# Altium schematic symbol library Interface_Optical.SchLib: 42 symbols
Pins are listed as number, name and electrical type; pins without a type are passive.

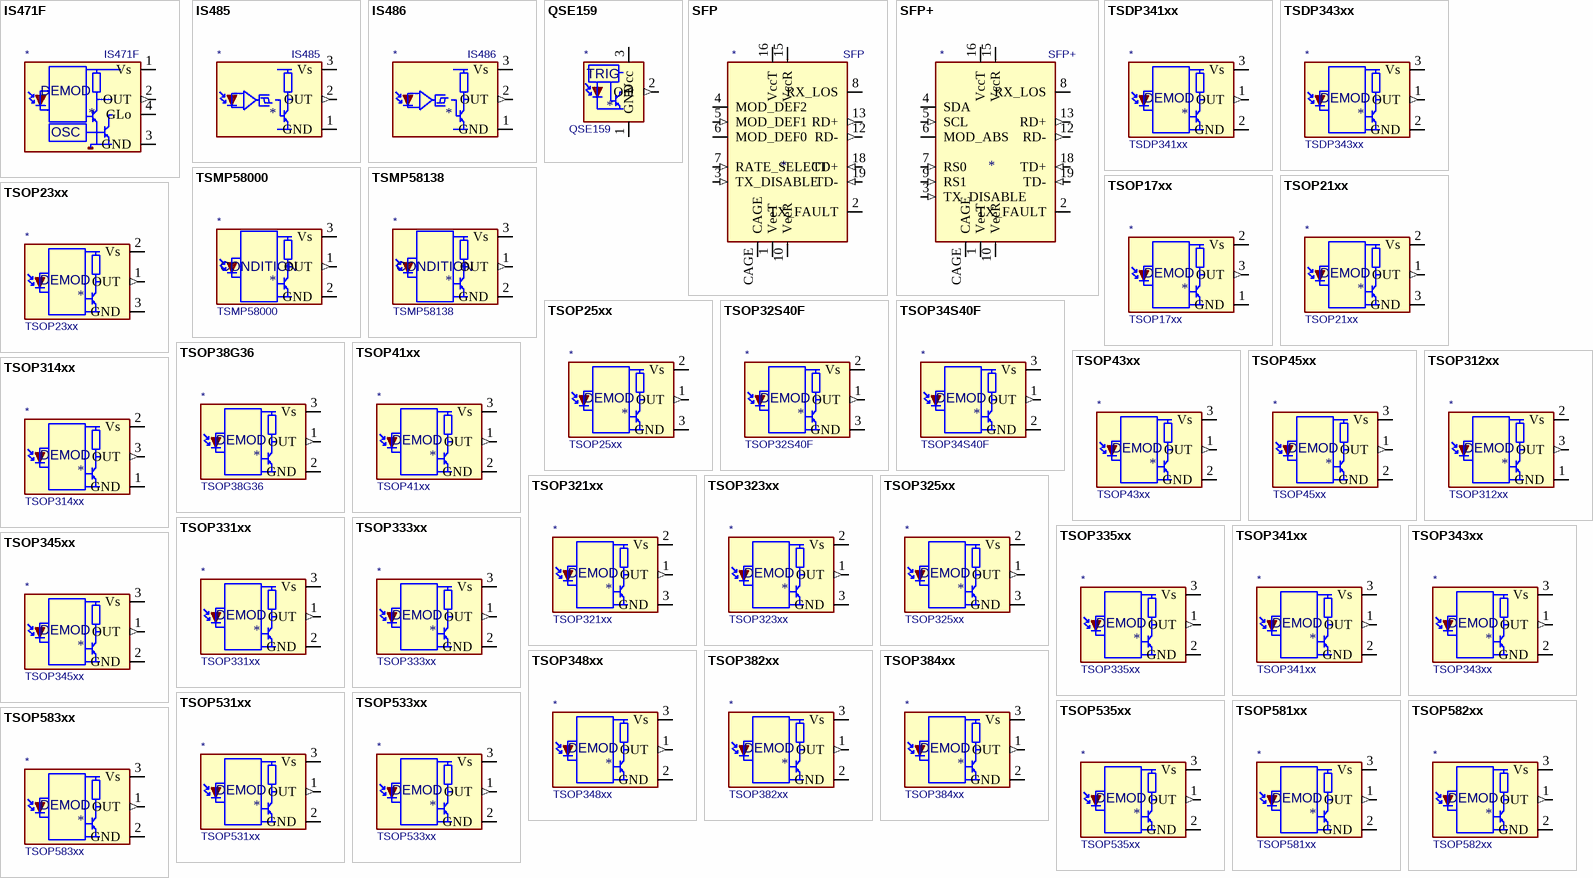
[diagram p0: symbols IS471F to TSOP583xx]

## IS471F
designator *  value IS471F
ki_keywords: opto IR receiver; ki_description: Photo Modules for PCM Remote Control Systems; ki_fp_filters: Sharp*IS471F*; Footprint: OptoDevice:Sharp_IS471F; Supplier: http://www.micropik.com/PDF/tsop17xx.pdf
footprint Sharp_IS471F
pins: 1 Vs (power), 2 OUT (out), 3 GND (power), 4 GLo (oc)
text: DEMOD; OSC

## IS485
designator *  value IS485
ki_keywords: opto receiver amplifier light detector OPIC; ki_description: Built-in Amplifier Type OPIC Light Detector; ki_fp_filters: Sharp*IS485*; Footprint: OptoDevice:Sharp_IS485; Supplier: https://media.digikey.com/pdf/Data%20Sheets/Sharp%20PDFs/is485,486_e.pdf
footprint Sharp_IS485
pins: 1 GND (power), 2 OUT (out), 3 Vs (power)

## IS486
designator *  value IS486
ki_keywords: opto receiver amplifier light detector OPIC; ki_description: Built-in Amplifier Type OPIC Light Detector; ki_fp_filters: Sharp*IS485*; Footprint: OptoDevice:Sharp_IS485; Supplier: https://media.digikey.com/pdf/Data%20Sheets/Sharp%20PDFs/is485,486_e.pdf
footprint Sharp_IS485
pins: 1 GND (power), 2 OUT (out), 3 Vs (power)

## QSE159
designator *  value QSE159
ki_keywords: opto IR; ki_description: Plastic Silicon Photosensor; ki_fp_filters: *QSE15*; Footprint: OptoDevice:ONSemi_QSE15x; Supplier: http://www.onsemi.com/pub/Collateral/QSE159-D.pdf
footprint ONSemi_QSE15x
pins: 1 GND (power), 2 Out (out), 3 Vcc (power)
text: TRIG

## SFP
designator *  value SFP
ki_keywords: SFP transceiver gigabit ethernet INF-8074i; ki_description: Connector for Small Form Factor Pluggable (SFP) module, 1 Gbit/s, serial-to-serial data-agnostic optical transceiver; ki_fp_filters: *SFP*; Supplier: http://www.10gtek.com/templates/wzten/pdf/INF-8074.pdf
pins: 1 VeeT (power), 2 TX_FAULT (oc), 3 TX_DISABLE (in), 4 MOD_DEF2 (io), 5 MOD_DEF1 (in), 6 MOD_DEF0, 7 RATE_SELECT (in), 8 RX_LOS (oc), 9 VeeR hidden, 10 VeeR (power), 11 VeeR hidden, 12 RD- (out), 13 RD+ (out), 14 VeeR hidden, 15 VccR (power), 16 VccT (power), 17 VeeT hidden, 18 TD+ (in), 19 TD- (in), 20 VeeT hidden, CAGE

## SFP+
designator *  value SFP+
ki_keywords: SFP transceiver gigabit ethernet SFF-8432; ki_description: Connector for Small Form Factor Pluggable (SFP+) module, 10 Gbit/s, serial-to-serial data-agnostic optical transceiver; ki_fp_filters: *SFP*; Supplier: https://members.snia.org/document/dl/25892
pins: 1 VeeT (power), 2 TX_FAULT (oc), 3 TX_DISABLE (in), 4 SDA (io), 5 SCL (in), 6 MOD_ABS, 7 RS0 (in), 8 RX_LOS (oc), 9 RS1 (in), 10 VeeR (power), 11 VeeR hidden, 12 RD- (out), 13 RD+ (out), 14 VeeR hidden, 15 VccR (power), 16 VccT (power), 17 VeeT hidden, 18 TD+ (in), 19 TD- (in), 20 VeeT hidden, CAGE

## TSDP341xx
designator *  value TSDP341xx
ki_keywords: opto IR receiver; ki_description: IR Receiver Modules for Data Transmission; ki_fp_filters: Vishay*MOLD*; Footprint: OptoDevice:Vishay_MOLD-3Pin; Supplier: http://www.vishay.com/docs/82667/tsdp341.pdf
footprint Vishay_MOLD-3Pin
pins: 1 OUT (out), 2 GND (power), 3 Vs (power)
text: DEMOD

## TSDP343xx
designator *  value TSDP343xx
ki_keywords: opto IR receiver; ki_description: IR Receiver Modules for Data Transmission; ki_fp_filters: Vishay*MOLD*; Footprint: OptoDevice:Vishay_MOLD-3Pin; Supplier: http://www.vishay.com/docs/82667/tsdp341.pdf
footprint Vishay_MOLD-3Pin
pins: 1 OUT (out), 2 GND (power), 3 Vs (power)
text: DEMOD

## TSMP58000
designator *  value TSMP58000
ki_keywords: opto IR receiver; ki_description: Photo Module (Amplify&Condition) for PCM Remote Control Systems; ki_fp_filters: Vishay*MINICAST*; Footprint: OptoDevice:Vishay_MINICAST-3Pin; Supplier: http://www.vishay.com/docs/82485/tsmp58000.pdf
footprint Vishay_MINICAST-3Pin
pins: 1 OUT (out), 2 GND (power), 3 Vs (power)
text: CONDITION

## TSMP58138
designator *  value TSMP58138
ki_keywords: opto IR repeater receiver; ki_description: Photo Module (Repeater) for PCM Remote Control Systems; ki_fp_filters: Vishay*MINICAST*; Footprint: OptoDevice:Vishay_MINICAST-3Pin; Supplier: http://www.vishay.com/docs/82486/tsmp58138.pdf
footprint Vishay_MINICAST-3Pin
pins: 1 OUT (out), 2 GND (power), 3 Vs (power)
text: CONDITION

## TSOP17xx
designator *  value TSOP17xx
ki_keywords: opto IR receiver; ki_description: Photo Modules for PCM Remote Control Systems; ki_fp_filters: Vishay*CAST*; Footprint: OptoDevice:Vishay_CAST-3Pin; Supplier: http://www.micropik.com/PDF/tsop17xx.pdf
footprint Vishay_CAST-3Pin
pins: 1 GND (power), 2 Vs (power), 3 OUT (out)
text: DEMOD

## TSOP21xx
designator *  value TSOP21xx
ki_keywords: opto IR receiver; ki_description: IR Receiver Modules for Remote Control Systems; ki_fp_filters: Vishay*MOLD*; Footprint: OptoDevice:Vishay_MOLD-3Pin; Supplier: http://www.vishay.com/docs/82460/tsop45.pdf
footprint Vishay_MOLD-3Pin
pins: 1 OUT (out), 2 Vs (power), 3 GND (power)
text: DEMOD

## TSOP23xx
designator *  value TSOP23xx
ki_keywords: opto IR receiver; ki_description: IR Receiver Modules for Remote Control Systems; ki_fp_filters: Vishay*MOLD*; Footprint: OptoDevice:Vishay_MOLD-3Pin; Supplier: http://www.vishay.com/docs/82460/tsop45.pdf
footprint Vishay_MOLD-3Pin
pins: 1 OUT (out), 2 Vs (power), 3 GND (power)
text: DEMOD

## TSOP25xx
designator *  value TSOP25xx
ki_keywords: opto IR receiver; ki_description: IR Receiver Modules for Remote Control Systems; ki_fp_filters: Vishay*MOLD*; Footprint: OptoDevice:Vishay_MOLD-3Pin; Supplier: http://www.vishay.com/docs/82460/tsop45.pdf
footprint Vishay_MOLD-3Pin
pins: 1 OUT (out), 2 Vs (power), 3 GND (power)
text: DEMOD

## TSOP32S40F
designator *  value TSOP32S40F
ki_keywords: opto IR receiver; ki_description: IR Receiver Modules for Remote Control Systems; ki_fp_filters: Vishay*MOLD*; Footprint: OptoDevice:Vishay_MOLD-3Pin; Supplier: http://www.vishay.com/docs/82669/tsop32s40f.pdf
footprint Vishay_MOLD-3Pin
pins: 1 OUT (out), 2 Vs (power), 3 GND (power)
text: DEMOD

## TSOP34S40F
designator *  value TSOP34S40F
ki_keywords: opto IR receiver; ki_description: IR Receiver Modules for Remote Control Systems; ki_fp_filters: Vishay*MOLD*; Footprint: OptoDevice:Vishay_MOLD-3Pin; Supplier: http://www.vishay.com/docs/82669/tsop32s40f.pdf
footprint Vishay_MOLD-3Pin
pins: 1 OUT (out), 2 GND (power), 3 Vs (power)
text: DEMOD

## TSOP38G36
designator *  value TSOP38G36
ki_keywords: opto IR receiver; ki_description: Photo Modules for PCM Remote Control Systems; ki_fp_filters: Vishay*MINICAST*; Footprint: OptoDevice:Vishay_MINICAST-3Pin; Supplier: http://www.vishay.com/docs/82731/tsop38g36.pdf
footprint Vishay_MINICAST-3Pin
pins: 1 OUT (out), 2 GND (power), 3 Vs (power)
text: DEMOD

## TSOP41xx
designator *  value TSOP41xx
ki_keywords: opto IR receiver; ki_description: IR Receiver Modules for Remote Control Systems; ki_fp_filters: Vishay*MOLD*; Footprint: OptoDevice:Vishay_MOLD-3Pin; Supplier: http://www.vishay.com/docs/82460/tsop45.pdf
footprint Vishay_MOLD-3Pin
pins: 1 OUT (out), 2 GND (power), 3 Vs (power)
text: DEMOD

## TSOP43xx
designator *  value TSOP43xx
ki_keywords: opto IR receiver; ki_description: IR Receiver Modules for Remote Control Systems; ki_fp_filters: Vishay*MOLD*; Footprint: OptoDevice:Vishay_MOLD-3Pin; Supplier: http://www.vishay.com/docs/82460/tsop45.pdf
footprint Vishay_MOLD-3Pin
pins: 1 OUT (out), 2 GND (power), 3 Vs (power)
text: DEMOD

## TSOP45xx
designator *  value TSOP45xx
ki_keywords: opto IR receiver; ki_description: IR Receiver Modules for Remote Control Systems; ki_fp_filters: Vishay*MOLD*; Footprint: OptoDevice:Vishay_MOLD-3Pin; Supplier: http://www.vishay.com/docs/82460/tsop45.pdf
footprint Vishay_MOLD-3Pin
pins: 1 OUT (out), 2 GND (power), 3 Vs (power)
text: DEMOD

## TSOP312xx
designator *  value TSOP312xx
ki_keywords: opto IR receiver; ki_description: Photo Modules for PCM Remote Control Systems; ki_fp_filters: Vishay*CAST*; Footprint: OptoDevice:Vishay_CAST-3Pin; Supplier: http://www.vishay.com/docs/82492/tsop312.pdf
footprint Vishay_CAST-3Pin
pins: 1 GND (power), 2 Vs (power), 3 OUT (out)
text: DEMOD

## TSOP314xx
designator *  value TSOP314xx
ki_keywords: opto IR receiver; ki_description: Photo Modules for PCM Remote Control Systems; ki_fp_filters: Vishay*CAST*; Footprint: OptoDevice:Vishay_CAST-3Pin; Supplier: http://www.vishay.com/docs/82492/tsop312.pdf
footprint Vishay_CAST-3Pin
pins: 1 GND (power), 2 Vs (power), 3 OUT (out)
text: DEMOD

## TSOP321xx
designator *  value TSOP321xx
ki_keywords: opto IR receiver; ki_description: IR Receiver Modules for Remote Control Systems; ki_fp_filters: Vishay*MOLD*; Footprint: OptoDevice:Vishay_MOLD-3Pin; Supplier: http://www.vishay.com/docs/82490/tsop321.pdf
footprint Vishay_MOLD-3Pin
pins: 1 OUT (out), 2 Vs (power), 3 GND (power)
text: DEMOD

## TSOP323xx
designator *  value TSOP323xx
ki_keywords: opto IR receiver; ki_description: IR Receiver Modules for Remote Control Systems; ki_fp_filters: Vishay*MOLD*; Footprint: OptoDevice:Vishay_MOLD-3Pin; Supplier: http://www.vishay.com/docs/82490/tsop321.pdf
footprint Vishay_MOLD-3Pin
pins: 1 OUT (out), 2 Vs (power), 3 GND (power)
text: DEMOD

## TSOP325xx
designator *  value TSOP325xx
ki_keywords: opto IR receiver; ki_description: IR Receiver Modules for Remote Control Systems; ki_fp_filters: Vishay*MOLD*; Footprint: OptoDevice:Vishay_MOLD-3Pin; Supplier: http://www.vishay.com/docs/82490/tsop321.pdf
footprint Vishay_MOLD-3Pin
pins: 1 OUT (out), 2 Vs (power), 3 GND (power)
text: DEMOD

## TSOP331xx
designator *  value TSOP331xx
ki_keywords: opto IR receiver; ki_description: IR Receiver Modules for Remote Control Systems; ki_fp_filters: Vishay*MINIMOLD*; Footprint: OptoDevice:Vishay_MINIMOLD-3Pin; Supplier: http://www.vishay.com/docs/82742/tsop331.pdf
footprint Vishay_MINIMOLD-3Pin
pins: 1 OUT (out), 2 GND (power), 3 Vs (power)
text: DEMOD

## TSOP333xx
designator *  value TSOP333xx
ki_keywords: opto IR receiver; ki_description: IR Receiver Modules for Remote Control Systems; ki_fp_filters: Vishay*MINIMOLD*; Footprint: OptoDevice:Vishay_MINIMOLD-3Pin; Supplier: http://www.vishay.com/docs/82742/tsop331.pdf
footprint Vishay_MINIMOLD-3Pin
pins: 1 OUT (out), 2 GND (power), 3 Vs (power)
text: DEMOD

## TSOP335xx
designator *  value TSOP335xx
ki_keywords: opto IR receiver; ki_description: IR Receiver Modules for Remote Control Systems; ki_fp_filters: Vishay*MINIMOLD*; Footprint: OptoDevice:Vishay_MINIMOLD-3Pin; Supplier: http://www.vishay.com/docs/82742/tsop331.pdf
footprint Vishay_MINIMOLD-3Pin
pins: 1 OUT (out), 2 GND (power), 3 Vs (power)
text: DEMOD

## TSOP341xx
designator *  value TSOP341xx
ki_keywords: opto IR receiver; ki_description: IR Receiver Modules for Remote Control Systems; ki_fp_filters: Vishay*MOLD*; Footprint: OptoDevice:Vishay_MOLD-3Pin; Supplier: http://www.vishay.com/docs/82490/tsop321.pdf
footprint Vishay_MOLD-3Pin
pins: 1 OUT (out), 2 GND (power), 3 Vs (power)
text: DEMOD

## TSOP343xx
designator *  value TSOP343xx
ki_keywords: opto IR receiver; ki_description: IR Receiver Modules for Remote Control Systems; ki_fp_filters: Vishay*MOLD*; Footprint: OptoDevice:Vishay_MOLD-3Pin; Supplier: http://www.vishay.com/docs/82490/tsop321.pdf
footprint Vishay_MOLD-3Pin
pins: 1 OUT (out), 2 GND (power), 3 Vs (power)
text: DEMOD

## TSOP345xx
designator *  value TSOP345xx
ki_keywords: opto IR receiver; ki_description: IR Receiver Modules for Remote Control Systems; ki_fp_filters: Vishay*MOLD*; Footprint: OptoDevice:Vishay_MOLD-3Pin; Supplier: http://www.vishay.com/docs/82490/tsop321.pdf
footprint Vishay_MOLD-3Pin
pins: 1 OUT (out), 2 GND (power), 3 Vs (power)
text: DEMOD

## TSOP348xx
designator *  value TSOP348xx
ki_keywords: opto IR receiver; ki_description: IR Receiver Modules for Remote Control Systems; ki_fp_filters: Vishay*MOLD*; Footprint: OptoDevice:Vishay_MOLD-3Pin; Supplier: https://www.vishay.com/docs/82489/tsop322.pdf
footprint Vishay_MOLD-3Pin
pins: 1 OUT (out), 2 GND (power), 3 Vs (power)
text: DEMOD

## TSOP382xx
designator *  value TSOP382xx
ki_keywords: opto IR receiver; ki_description: Photo Modules for PCM Remote Control Systems; ki_fp_filters: Vishay*MINICAST*; Footprint: OptoDevice:Vishay_MINICAST-3Pin; Supplier: http://www.vishay.com/docs/82491/tsop382.pdf
footprint Vishay_MINICAST-3Pin
pins: 1 OUT (out), 2 GND (power), 3 Vs (power)
text: DEMOD

## TSOP384xx
designator *  value TSOP384xx
ki_keywords: opto IR receiver; ki_description: Photo Modules for PCM Remote Control Systems; ki_fp_filters: Vishay*MINICAST*; Footprint: OptoDevice:Vishay_MINICAST-3Pin; Supplier: http://www.vishay.com/docs/82491/tsop382.pdf
footprint Vishay_MINICAST-3Pin
pins: 1 OUT (out), 2 GND (power), 3 Vs (power)
text: DEMOD

## TSOP531xx
designator *  value TSOP531xx
ki_keywords: opto IR receiver; ki_description: IR Receiver Modules for Remote Control Systems; ki_fp_filters: Vishay*MINIMOLD*; Footprint: OptoDevice:Vishay_MINIMOLD-3Pin; Supplier: http://www.vishay.com/docs/82745/tsop531.pdf
footprint Vishay_MINIMOLD-3Pin
pins: 1 OUT (out), 2 GND (power), 3 Vs (power)
text: DEMOD

## TSOP533xx
designator *  value TSOP533xx
ki_keywords: opto IR receiver; ki_description: IR Receiver Modules for Remote Control Systems; ki_fp_filters: Vishay*MINIMOLD*; Footprint: OptoDevice:Vishay_MINIMOLD-3Pin; Supplier: http://www.vishay.com/docs/82745/tsop531.pdf
footprint Vishay_MINIMOLD-3Pin
pins: 1 OUT (out), 2 GND (power), 3 Vs (power)
text: DEMOD

## TSOP535xx
designator *  value TSOP535xx
ki_keywords: opto IR receiver; ki_description: IR Receiver Modules for Remote Control Systems; ki_fp_filters: Vishay*MINIMOLD*; Footprint: OptoDevice:Vishay_MINIMOLD-3Pin; Supplier: http://www.vishay.com/docs/82745/tsop531.pdf
footprint Vishay_MINIMOLD-3Pin
pins: 1 OUT (out), 2 GND (power), 3 Vs (power)
text: DEMOD

## TSOP581xx
designator *  value TSOP581xx
ki_keywords: opto IR receiver; ki_description: Photo Modules for PCM Remote Control Systems; ki_fp_filters: Vishay*MINICAST*; Footprint: OptoDevice:Vishay_MINICAST-3Pin; Supplier: http://www.vishay.com/docs/82462/tsop581.pdf
footprint Vishay_MINICAST-3Pin
pins: 1 OUT (out), 2 GND (power), 3 Vs (power)
text: DEMOD

## TSOP582xx
designator *  value TSOP582xx
ki_keywords: opto IR receiver; ki_description: Photo Modules for PCM Remote Control Systems; ki_fp_filters: Vishay*MINICAST*; Footprint: OptoDevice:Vishay_MINICAST-3Pin; Supplier: http://www.vishay.com/docs/82461/tsop582.pdf
footprint Vishay_MINICAST-3Pin
pins: 1 OUT (out), 2 GND (power), 3 Vs (power)
text: DEMOD

## TSOP583xx
designator *  value TSOP583xx
ki_keywords: opto IR receiver; ki_description: Photo Modules for PCM Remote Control Systems; ki_fp_filters: Vishay*MINICAST*; Footprint: OptoDevice:Vishay_MINICAST-3Pin; Supplier: http://www.vishay.com/docs/82462/tsop581.pdf
footprint Vishay_MINICAST-3Pin
pins: 1 OUT (out), 2 GND (power), 3 Vs (power)
text: DEMOD

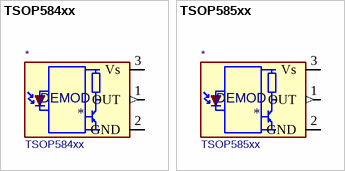
[diagram p1: symbols TSOP584xx to TSOP585xx]

## TSOP584xx
designator *  value TSOP584xx
ki_keywords: opto IR receiver; ki_description: Photo Modules for PCM Remote Control Systems; ki_fp_filters: Vishay*MINICAST*; Footprint: OptoDevice:Vishay_MINICAST-3Pin; Supplier: http://www.vishay.com/docs/82461/tsop582.pdf
footprint Vishay_MINICAST-3Pin
pins: 1 OUT (out), 2 GND (power), 3 Vs (power)
text: DEMOD

## TSOP585xx
designator *  value TSOP585xx
ki_keywords: opto IR receiver; ki_description: Photo Modules for PCM Remote Control Systems; ki_fp_filters: Vishay*MINICAST*; Footprint: OptoDevice:Vishay_MINICAST-3Pin; Supplier: http://www.vishay.com/docs/82462/tsop581.pdf
footprint Vishay_MINICAST-3Pin
pins: 1 OUT (out), 2 GND (power), 3 Vs (power)
text: DEMOD